# Altium footprint library KTR18EZPF3300.PcbLib: 2 footprints
Each footprint in its own frame and in the unit in brackets; x right, y up, seen from the top. Pads: shape width x height; smd on the part's side, far side on the other; paste and mask are expansions set on the pad; w line width, h text height; cw(c..) or ccw(c..) is an arc to the next point about the centre after c.
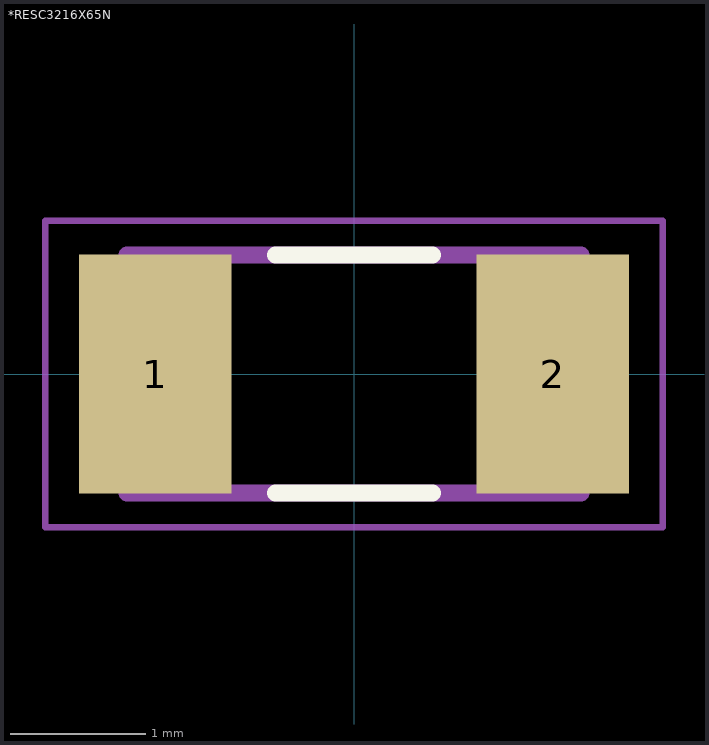
[diagram p0: the footprints below, top view; thin cyan lines are the x and y axes]

## *RESC3216X65N [mm]
pads (2):
  rect 1.13x1.77 smd: 1(-1.47,0) 2(1.47,0)
Top Overlay:
  lines w0.127: -0.58,-0.88 0.58,-0.88 ; -0.58,0.88 0.58,0.88
Mechanical 4:
  lines w0.127: -1.68,-0.88 -1.68,0.88 ; -1.68,-0.88 1.68,-0.88 ; -1.68,-0.88 -1.68,0.88 ; -1.68,-0.88 1.68,-0.88 ; -1.68,0.88 1.68,0.88 ; -1.68,0.88 1.68,0.88 ; 1.68,-0.88 1.68,0.88 ; 1.68,-0.88 1.68,0.88
Mechanical 16:
  lines w0.05: -2.285,-1.135 -2.285,1.135 2.285,1.135 2.285,-1.135 -2.285,-1.135

## PCBComponent_1 [mm]